# EAGLE library part ADXL213 (library adxl213)
Low-Cost +-2 g Dual-Axis Accelerometer with Duty Cycle Output Source: http://www.analog.com/media/en/technical-documentation/data-sheets/ADXL213.pdf
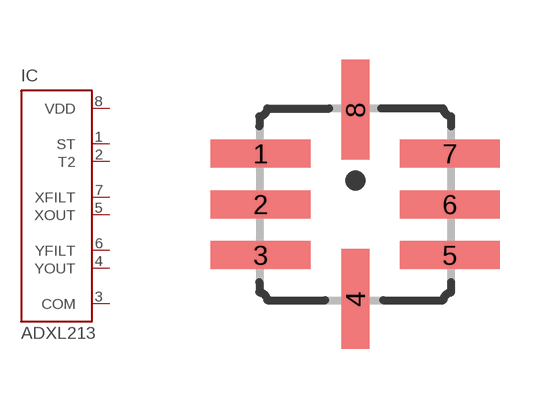
[diagram p0: symbol with the pads of LCC8; footprint LCC8]

Designator prefix IC

## ADXL213  [LCC8]
1  ST  in
2  T2  in
3  COM  in
4  YOUT  in
5  XOUT  in
6  YFILT  in
7  XFILT  in
8  VDD  in

## Footprint LCC8 (pad centres in mm)
8-Terminal Ceramic Leadless Chip Carrier [LCC] (E-8)
smd 2.5 x 0.7: 1 -2.367,1.27; 2 -2.367,0; 3 -2.367,-1.27; 5 2.367,-1.27; 6 2.367,0; 7 2.367,1.27
smd 0.7 x 2.5: 4 0,-2.367; 8 0,2.367